# EAGLE library part TPS2549RTER (library TPS2549)
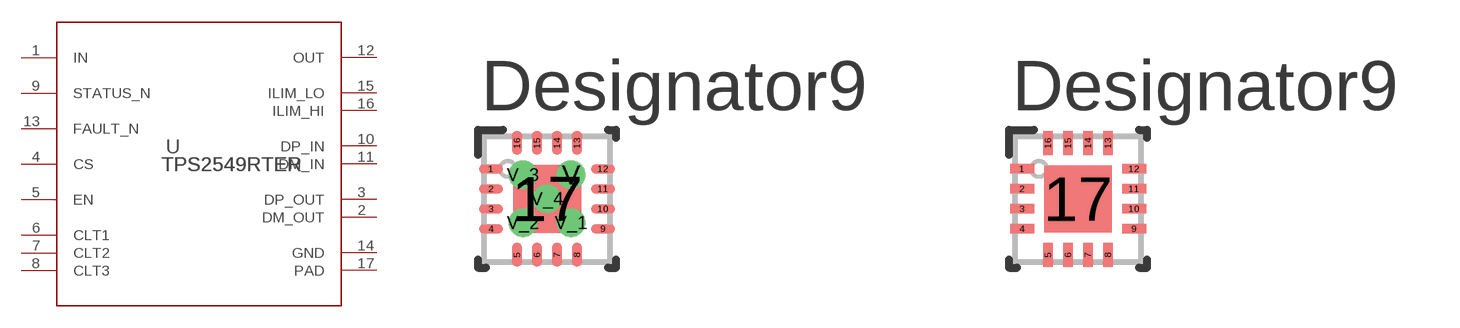
[diagram p0: symbol with the pads of RTE0016C; footprints RTE0016C, RTE0016C_NV]

Designator prefix U

## TPS2549RTERRTE0016C (Copyright: Copyright (C) 2025 Ultra Librarian. All rights reserved.; Datasheet: https://www.ti.com/lit/gpn/tps2549; Description: USB charging port controller and 3A power switch with Cable Compensation 16-WQFN -40 to 125; Manufacturer_Name: Texas Instruments; Manufacturer_Part_Number: TPS2549RTER; RefDes: RefDes; TYPE: TYPE)  [RTE0016C]
1  IN  pwr
2  DM_OUT  out
3  DP_OUT  out
4  CS  in
5  EN  in
6  CLT1  in
7  CLT2  in
8  CLT3  in
9  STATUS_N  oc
10  DP_IN
11  DM_IN
12  OUT  pwr
13  FAULT_N  oc
14  GND  pwr
15  ILIM_LO  in
16  ILIM_HI  in
17  PAD  pwr

## TPS2549RTERRTE0016C_NV (Copyright: Copyright (C) 2025 Ultra Librarian. All rights reserved.; Datasheet: https://www.ti.com/lit/gpn/tps2549; Description: USB charging port controller and 3A power switch with Cable Compensation 16-WQFN -40 to 125; Manufacturer_Name: Texas Instruments; Manufacturer_Part_Number: TPS2549RTER; RefDes: RefDes; TYPE: TYPE)  [RTE0016C_NV]
Pads as for RTE0016C

## Footprint RTE0016C (pad centres in mm)
smd 0.6 x 0.24: 1 -1.4,0.75; 2 -1.4,0.25; 3 -1.4,-0.25; 4 -1.4,-0.75; 9 1.4,-0.75; 10 1.4,-0.25; 11 1.4,0.25; 12 1.4,0.75
smd 0.24 x 0.6: 5 -0.75,-1.4; 6 -0.25,-1.4; 7 0.25,-1.4; 8 0.75,-1.4; 13 0.75,1.4; 14 0.25,1.4; 15 -0.25,1.4; 16 -0.75,1.4
smd 1.7 x 1.7: 17 0,0
drill 0.203 pad 0.5 round: V 0.6,0.6; V_1 0.6,-0.6; V_2 -0.6,-0.6; V_3 -0.6,0.6; V_4 0,0

## Footprint RTE0016C_NV (pad centres in mm)
smd 0.6 x 0.24: 1 -1.4,0.75; 2 -1.4,0.25; 3 -1.4,-0.25; 4 -1.4,-0.75; 9 1.4,-0.75; 10 1.4,-0.25; 11 1.4,0.25; 12 1.4,0.75
smd 0.24 x 0.6: 5 -0.75,-1.4; 6 -0.25,-1.4; 7 0.25,-1.4; 8 0.75,-1.4; 13 0.75,1.4; 14 0.25,1.4; 15 -0.25,1.4; 16 -0.75,1.4
smd 1.68 x 1.68: 17 0,0